# Altium integrated library UJ2-AV-1-TH.IntLib: 1 symbol
Pins are listed as number, name and electrical type; pins without a type are passive.

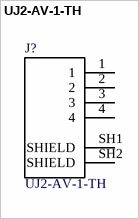
[diagram p0: symbol UJ2-AV-1-TH]

## UJ2-AV-1-TH
designator J?
/ Standard A Type 4 Pin Vertical 3 Âµin Plating Through Hole USB Jack 2.0 /; MF: CUI Inc.; Digi-Key_Part_Number: 102-3995-ND; Digi-Key_Purchase_URL: https://www.digikey.com.au/product-detail/en/cui-inc/UJ2-AV-1-TH/102-3995-ND/6187910?utm_source=snapeda&utm_medium=aggregator&utm_campaign=symbol; Package: None; SnapEDA_Link: https://www.snapeda.com/parts/UJ2-AV-1-TH/CUI%20Inc./view-part/?ref=snap; MP: UJ2-AV-1-TH; CUI_purchase_URL: https://www.cui.com/product/interconnect/usb-connectors/type-a/uj2-av-th-series?utm_source=snapeda.com&utm_medium=referral&utm_campaign=snapedaBOM; Value: *
footprint *CUI_UJ2-AV-1-TH_UJ2-AV-1-TH(Primary)
pins: 1, 2, 3, 4, SH1 SHIELD, SH2 SHIELD